# EAGLE library part AT28C64B (library apple-mini)
Atmel AT28C64B 64K (8K x 8) Parallel EEPROM The AT28C64B is a high-performance electrically-erasable and programmable readonly memory (EEPROM). Its 64K of memory is organized as 8,192 words by 8 bits. Manufactured with Atmel’s advanced nonvolatile CMOS technology, the device offers access times to 150 ns with power dissipation of just 220 mW. When the device is deselected, the CMOS standby current is less than 100 µA. Source: http://www.atmel.com/Images/doc0270.pdf
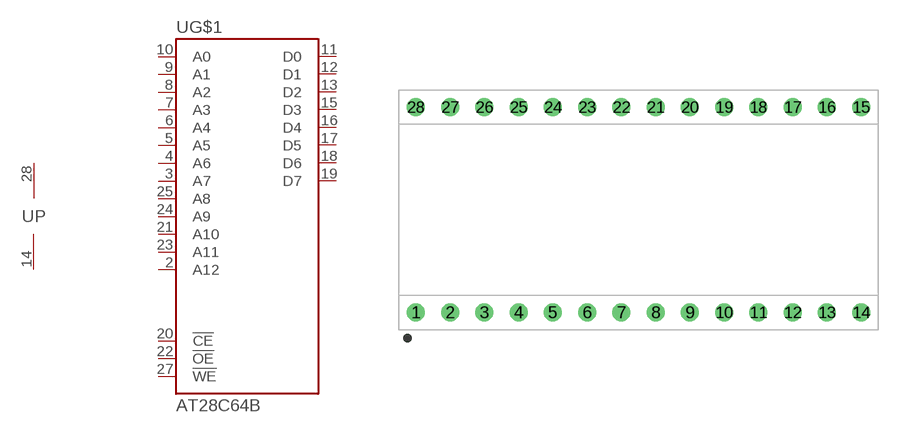
[diagram p9: symbol with the pads of DIP28; footprint DIP28]

Designator prefix U; gates G$1=SRAM64K P=PWRN

## AT28C64B (MFR: Atmel; MFR_PARTNO: AT28C64B-15PU)  [DIP28]
2  G$1:A12  in
3  G$1:A7  in
4  G$1:A6  in
5  G$1:A5  in
6  G$1:A4  in
7  G$1:A3  in
8  G$1:A2  in
9  G$1:A1  in
10  G$1:A0  in
11  G$1:D0
12  G$1:D1
13  G$1:D2
14  P:GND  pwr
15  G$1:D3
16  G$1:D4
17  G$1:D5
18  G$1:D6
19  G$1:D7
20  G$1:!CE  in
21  G$1:A10  in
22  G$1:!OE  in
23  G$1:A11  in
24  G$1:A9  in
25  G$1:A8  in
27  G$1:!WE  in
28  P:VCC  pwr

## Footprint DIP28 (pad centres in mm)
Dual In-line Package
drill 0.813: 1 -16.51,-7.62; 2 -13.97,-7.62; 3 -11.43,-7.62; 4 -8.89,-7.62; 5 -6.35,-7.62; 6 -3.81,-7.62; 7 -1.27,-7.62; 8 1.27,-7.62; 9 3.81,-7.62; 10 6.35,-7.62; 11 8.89,-7.62; 12 11.43,-7.62; 13 13.97,-7.62; 14 16.51,-7.62; 15 16.51,7.62; 16 13.97,7.62; 17 11.43,7.62; 18 8.89,7.62; 19 6.35,7.62; 20 3.81,7.62; 21 1.27,7.62; 22 -1.27,7.62; 23 -3.81,7.62; 24 -6.35,7.62; 25 -8.89,7.62; 26 -11.43,7.62; 27 -13.97,7.62; 28 -16.51,7.62